# Altium footprint library DHVQFN14_300X250X100.PcbLib: 1 footprints
Each footprint in its own frame and in the unit in brackets; x right, y up, seen from the top. Pads: shape width x height; smd on the part's side, far side on the other; paste and mask are expansions set on the pad; w line width, h text height; cw(c..) or ccw(c..) is an arc to the next point about the centre after c.
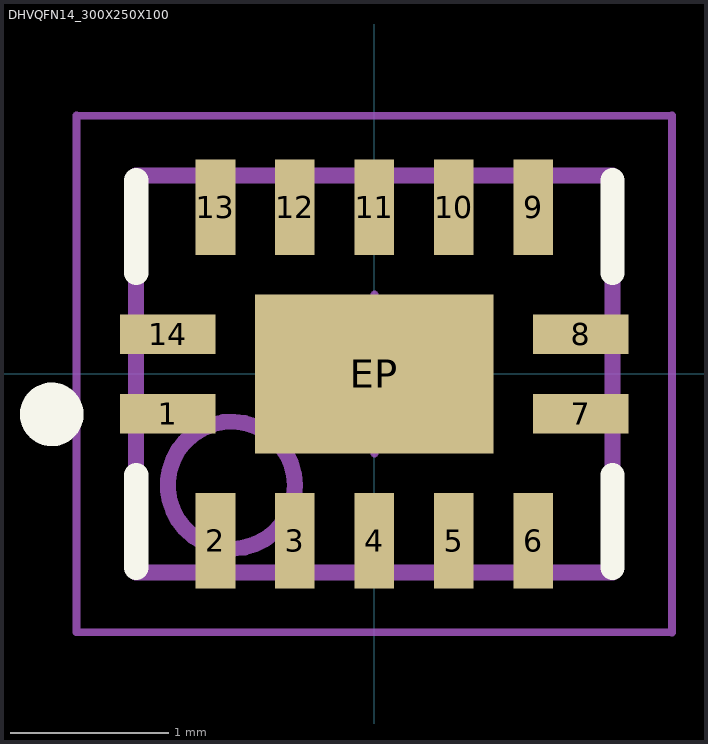
[diagram p0: the footprint, top view; thin cyan lines are the x and y axes]

## DHVQFN14_300X250X100 [mm] "QFN, 14-Leads, Body 3.00x2.50mm, Pitch 0.50mm, Thermal Pad 2.00x2.00mm, IPC High Density"
height 1
pads (15):
  rect 0.6x0.25 smd: 1(-1.3,-0.25) 7(1.3,-0.25) 8(1.3,0.25) 14(-1.3,0.25)
  rect 0.25x0.6 smd: 2(-1,-1.05) 3(-0.5,-1.05) 4(0,-1.05) 5(0.5,-1.05) 6(1,-1.05) 9(1,1.05) 10(0.5,1.05) 11(0,1.05) 12(-0.5,1.05) 13(-1,1.05)
  rect 1.5x1 smd: EP(0,0)
Top Overlay:
  circle w0.2: c-2.03,-0.254 r0.1
  lines w0.152: -1.499,-1.219 -1.499,-0.635 ; -1.499,0.635 -1.499,1.219 ; 1.499,-1.219 1.499,-0.635 ; 1.499,0.635 1.499,1.219
Mechanical 13:
  circle w0.1: c-0.9,-0.7 r0.4
  lines w0.1: -1.5,-1.25 1.5,-1.25 1.5,1.25 -1.5,1.25 -1.5,-1.25
Mechanical 15:
  lines w0.05: -0.5,0 0.5,0 ; 0,-0.5 0,0.5 ; -1.875,-1.626 1.875,-1.626 1.875,1.626 -1.875,1.626 -1.875,-1.626
3D body: height 0.99, standoff -0.01, extent -1.498,-1.244 1.504,1.257